# EAGLE library part PCA9546A (library EXCISS)
PCA9546A Low Voltage 4-Channel I²C and SMBus Switch with Reset Function Links Datasheet <http://www.ti.com/lit/ds/symlink/pca9546a.pdf> Product website <http://www.ti.com/product/PCA9546A>
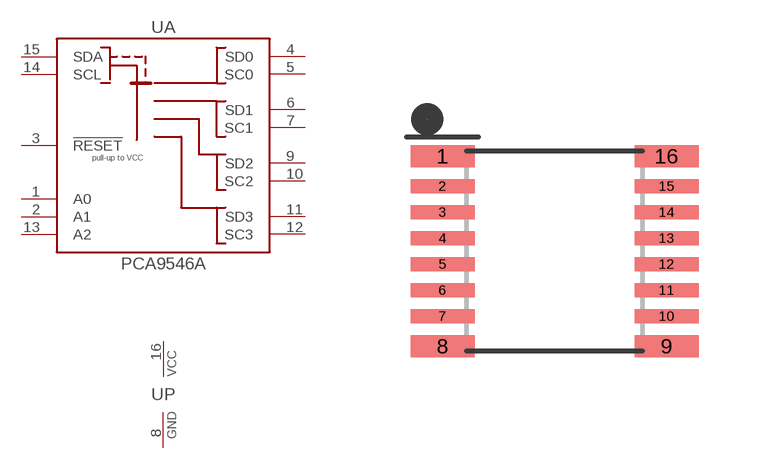
[diagram p14: symbol with the pads of R-PDSO-G16; footprint R-PDSO-G16]

Designator prefix U; gates A=PCA9546A P=POWER

## PCA9546APW (OC_MOUSER: 771-PCA9546APW-T)  [R-PDSO-G16]
1  A:A0  in
2  A:A1  in
3  A:!RESET  in
4  A:SD0
5  A:SC0  out
6  A:SD1
7  A:SC1  out
8  P:GND  pwr
9  A:SD2
10  A:SC2  out
11  A:SD3
12  A:SC3  out
13  A:A2  in
14  A:SCL  in
15  A:SDA
16  P:VCC  pwr

## Footprint R-PDSO-G16 (pad centres in mm)
smd 1.6 x 0.55: 1 -2.8,2.375; 8 -2.8,-2.375; 9 2.8,-2.375; 16 2.8,2.375
smd 1.6 x 0.35: 2 -2.8,1.625; 3 -2.8,0.975; 4 -2.8,0.325; 5 -2.8,-0.325; 6 -2.8,-0.975; 7 -2.8,-1.625; 10 2.8,-1.625; 11 2.8,-0.975; 12 2.8,-0.325; 13 2.8,0.325; 14 2.8,0.975; 15 2.8,1.625